# EAGLE library part TYPE-C(16PIN) (library TYPE-C USB)
Check availability <https://pricing.snapeda.com/parts/TYPE-C%2016PIN%202MD%20%28073%29/Shouhan/view-part?ref=eda>
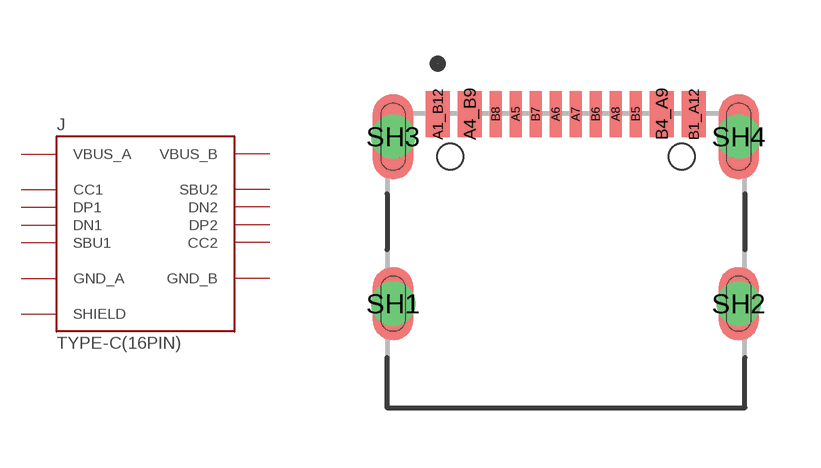
[diagram p0: symbol with the pads of TYPE-C(16PIN); footprint TYPE-C(16PIN)]

Designator prefix J

## TYPE-C(16PIN)"  [TYPE-C(16PIN)]
A1_B12  GND_A  pwr
A4_B9  VBUS_A  pwr
A5  CC1
A6  DP1
A7  DN1
A8  SBU1
B1_A12  GND_B  pwr
B4_A9  VBUS_B  pwr
B5  CC2
B6  DP2
B7  DN2
B8  SBU2
SH1  SHIELD  pas
SH2  SHIELD  pas
SH3  SHIELD  pas
SH4  SHIELD  pas

## Footprint TYPE-C(16PIN) (pad centres in mm)
smd 0.6 x 1.15: A1_B12 -3.2,3.67; A4_B9 -2.4,3.67; B1_A12 3.2,3.67; B4_A9 2.4,3.67
smd 0.3 x 1.15: A5 -1.25,3.67; A6 -0.25,3.67; A7 0.25,3.67; A8 1.25,3.67; B5 1.75,3.67; B6 0.75,3.67; B7 -0.75,3.67; B8 -1.75,3.67
drill 0.6 pad 1: SH1 -4.32,-1.075; SH2 4.32,-1.075; SH3 -4.32,3.105; SH4 4.32,3.105
hole 0.65 at -2.89,2.605
hole 0.65 at 2.89,2.605